# EAGLE library part ST25R3918-AQET (library ST25R3918-AQET)
Multi-purpose NFC transceiver Source: Datasheet <https://www.st.com/resource/en/datasheet/st25r3918.pdf>
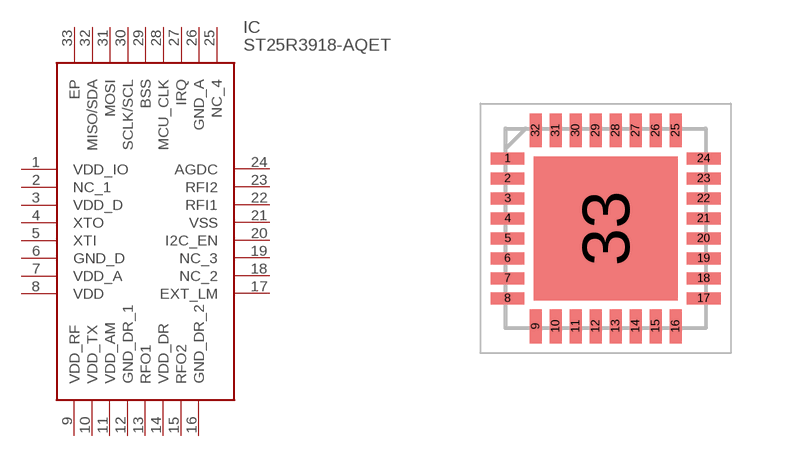
[diagram p0: symbol with the pads of QFN50P500X500X100-33N; footprint QFN50P500X500X100-33N]

Designator prefix IC

## ST25R3918-AQET (Description: Multi-purpose NFC transceiver; Height: 1mm; Manufacturer_Name: STMicroelectronics; Manufacturer_Part_Number: ST25R3918-AQET; Mouser_Part_Number: 511-ST25R3918-AQET; Mouser_Price-Stock: https://www.mouser.co.uk/ProductDetail/STMicroelectronics/ST25R3918-AQET?qs=9vOqFld9vZWSlZkFPTE6DA%3D%3D)  [QFN50P500X500X100-33N]
1  VDD_IO
2  NC_1
3  VDD_D
4  XTO
5  XTI
6  GND_D
7  VDD_A
8  VDD
9  VDD_RF
10  VDD_TX
11  VDD_AM
12  GND_DR_1
13  RFO1
14  VDD_DR
15  RFO2
16  GND_DR_2
17  EXT_LM
18  NC_2
19  NC_3
20  I2C_EN
21  VSS
22  RFI1
23  RFI2
24  AGDC
25  NC_4
26  GND_A
27  IRQ
28  MCU_CLK
29  BSS
30  SCLK/SCL
31  MOSI
32  MISO/SDA
33  EP

## Footprint QFN50P500X500X100-33N (pad centres in mm)
QFN325-1
smd 0.85 x 0.3: 1 -2.45,1.75; 2 -2.45,1.25; 3 -2.45,0.75; 4 -2.45,0.25; 5 -2.45,-0.25; 6 -2.45,-0.75; 7 -2.45,-1.25; 8 -2.45,-1.75; 17 2.45,-1.75; 18 2.45,-1.25; 19 2.45,-0.75; 20 2.45,-0.25; 21 2.45,0.25; 22 2.45,0.75; 23 2.45,1.25; 24 2.45,1.75
smd 0.3 x 0.85: 9 -1.75,-2.45; 10 -1.25,-2.45; 11 -0.75,-2.45; 12 -0.25,-2.45; 13 0.25,-2.45; 14 0.75,-2.45; 15 1.25,-2.45; 16 1.75,-2.45; 25 1.75,2.45; 26 1.25,2.45; 27 0.75,2.45; 28 0.25,2.45; 29 -0.25,2.45; 30 -0.75,2.45; 31 -1.25,2.45; 32 -1.75,2.45
smd 3.6 x 3.6: 33 0,0